# Altium schematic symbol library BMI_HEARDER_4mm.SchLib: 1 symbol
Pins are listed as number, name and electrical type; pins without a type are passive.

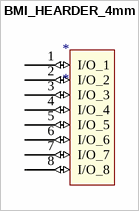
[diagram p0: symbol BMI_HEARDER_4mm]

## BMI_HEARDER_4mm
designator *
footprint BMI_HEARDER_4mm
pins: 1 I/O_1 (io), 2 I/O_2 (io), 3 I/O_3 (io), 4 I/O_4 (io), 5 I/O_5 (io), 6 I/O_6 (io), 7 I/O_7 (io), 8 I/O_8 (io)